# Altium footprint library Passives.PcbLib: 52 footprints (part 3 of 4)
Each footprint in its own frame and in the unit in brackets; x right, y up, seen from the top. Pads: shape width x height; smd on the part's side, far side on the other; paste and mask are expansions set on the pad; w line width, h text height; cw(c..) or ccw(c..) is an arc to the next point about the centre after c.
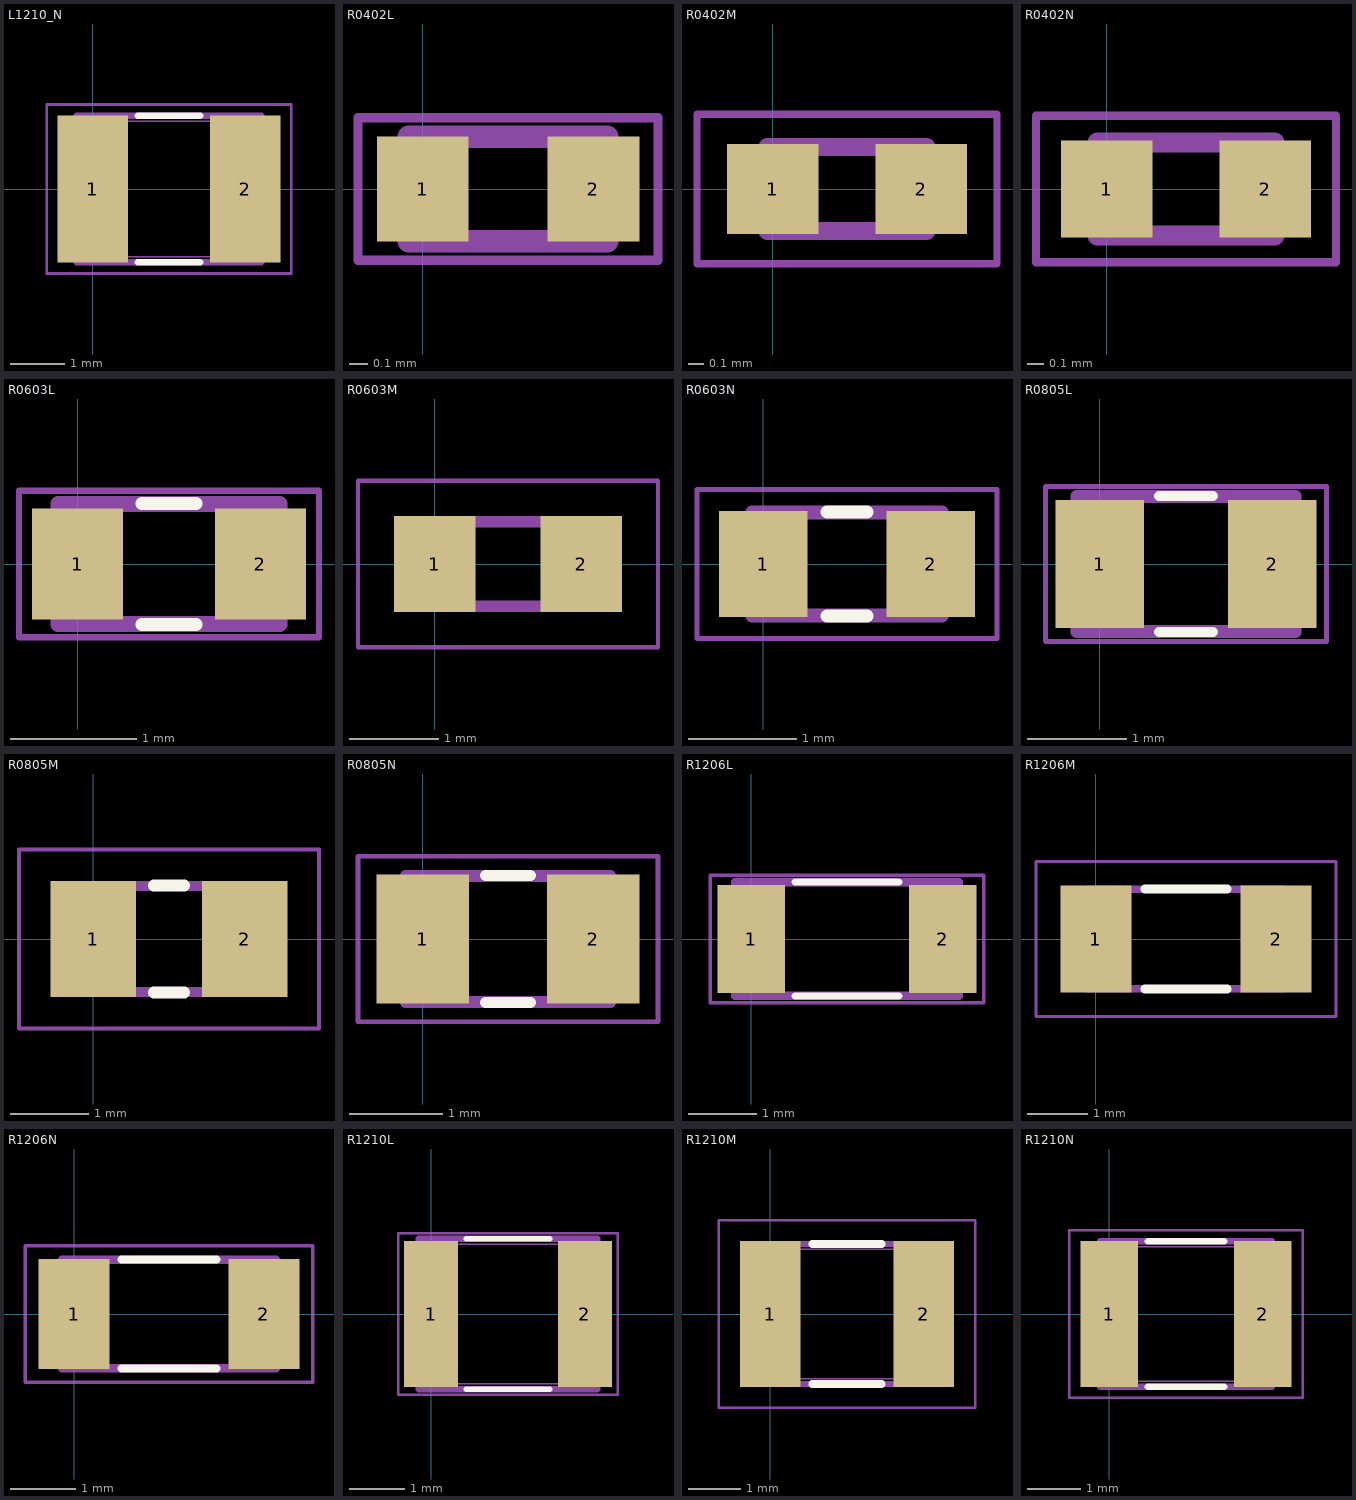
[diagram p2: the footprints below, top view; thin cyan lines are the x and y axes]

## L1210_N [mm]
height 2.7
pads (2):
  rect 1.3x2.72 smd: 1(0,0) 2(2.82,0)
Top Overlay:
  lines w0.12: 0.83,-1.35 1.99,-1.35 ; 0.83,1.35 1.99,1.35
Assembly Top:
  lines w0.12: -0.29,-1.35 3.11,-1.35 3.11,1.35 -0.29,1.35 -0.29,-1.35
3D Top:
  lines w0.025: -0.19,-1.25 -0.19,1.25 ; -0.19,-1.25 0.41,-1.25 0.41,1.25 -0.19,1.25 ; -0.19,-1.25 3.01,-1.25 ; -0.19,-1.25 -0.19,1.25 ; -0.19,1.25 3.01,1.25 ; 3.01,-1.25 2.41,-1.25 2.41,1.25 3.01,1.25 ; 3.01,-1.25 3.01,1.25 ; 3.01,-1.25 3.01,1.25
Courtyard Top:
  circle w0.05: c0,0 r0.25
  lines w0.05: -0.35,0 0.35,0 ; 0,-0.35 0,0.35 ; -0.85,-1.56 3.67,-1.56 3.67,1.56 -0.85,1.56 -0.85,-1.56
3D body: height 2.7, standoff 0, extent -0.189,-1.25 3.011,1.25

## R0402L [mm]
height 0.4
pads (2):
  rect 0.49x0.56 smd: 1(0,0) 2(0.91,0)
Assembly Top:
  lines w0.12: -0.075,-0.28 0.985,-0.28 0.985,0.28 -0.075,0.28 -0.075,-0.28
3D Top:
  lines w0.025: -0.045,-0.25 -0.045,0.25 ; -0.045,-0.25 0.205,-0.25 0.205,0.25 -0.045,0.25 ; -0.045,-0.25 0.955,-0.25 ; -0.045,-0.25 -0.045,0.25 ; -0.045,0.25 0.955,0.25 ; 0.955,-0.25 0.705,-0.25 0.705,0.25 0.955,0.25 ; 0.955,-0.25 0.955,0.25 ; 0.955,-0.25 0.955,0.25
Courtyard Top:
  circle w0.05: c0,0 r0.142
  lines w0.05: -0.19,0 0.19,0 ; 0,-0.19 0,0.19 ; -0.345,-0.38 1.255,-0.38 1.255,0.38 -0.345,0.38 -0.345,-0.38
3D body: height 0.4, standoff 0, extent -0.05,-0.25 0.95,0.25

## R0402M [mm]
height 0.4
pads (2):
  rect 0.61x0.6 smd: 1(0,0) 2(0.99,0)
Assembly Top:
  lines w0.12: -0.035,-0.28 1.025,-0.28 1.025,0.28 -0.035,0.28 -0.035,-0.28
3D Top:
  lines w0.025: -0.005,-0.25 -0.005,0.25 ; -0.005,-0.25 0.245,-0.25 0.245,0.25 -0.005,0.25 ; -0.005,-0.25 0.995,-0.25 ; -0.005,-0.25 -0.005,0.25 ; -0.005,0.25 0.995,0.25 ; 0.995,-0.25 0.745,-0.25 0.745,0.25 0.995,0.25 ; 0.995,-0.25 0.995,0.25 ; 0.995,-0.25 0.995,0.25
Courtyard Top:
  circle w0.05: c0,0 r0.188
  lines w0.05: -0.25,0 0.25,0 ; 0,-0.25 0,0.25 ; -0.505,-0.5 1.495,-0.5 1.495,0.5 -0.505,0.5 -0.505,-0.5
3D body: height 0.4, standoff 0, extent 0,-0.25 1,0.25

## R0402N [mm]
height 0.4
pads (2):
  rect 0.55x0.58 smd: 1(0,0) 2(0.95,0)
Assembly Top:
  lines w0.12: -0.055,-0.28 1.005,-0.28 1.005,0.28 -0.055,0.28 -0.055,-0.28
3D Top:
  lines w0.025: -0.025,-0.25 -0.025,0.25 ; -0.025,-0.25 0.225,-0.25 0.225,0.25 -0.025,0.25 ; -0.025,-0.25 0.975,-0.25 ; -0.025,-0.25 -0.025,0.25 ; -0.025,0.25 0.975,0.25 ; 0.975,-0.25 0.725,-0.25 0.725,0.25 0.975,0.25 ; 0.975,-0.25 0.975,0.25 ; 0.975,-0.25 0.975,0.25
Courtyard Top:
  circle w0.05: c0,0 r0.165
  lines w0.05: -0.22,0 0.22,0 ; 0,-0.22 0,0.22 ; -0.425,-0.44 1.375,-0.44 1.375,0.44 -0.425,0.44 -0.425,-0.44
3D body: height 0.4, standoff 0, extent -0.025,-0.25 0.975,0.25

## R0603L [mm]
height 0.55
pads (2):
  rect 0.72x0.88 smd: 1(0,0) 2(1.45,0)
Top Overlay:
  lines w0.1: 0.51,-0.48 0.94,-0.48 ; 0.51,0.48 0.94,0.48
Assembly Top:
  lines w0.12: -0.155,-0.48 -0.155,0.48 1.605,0.48 1.605,-0.48 -0.155,-0.48
3D Top:
  lines w0.025: -0.075,-0.425 -0.075,0.425 ; -0.075,-0.425 1.525,-0.425 ; -0.075,-0.425 0.225,-0.425 0.225,0.425 -0.075,0.425 ; -0.075,-0.425 -0.075,0.425 ; -0.075,0.425 1.525,0.425 ; 1.525,-0.425 1.525,0.425 ; 1.525,-0.425 1.525,0.425 ; 1.525,-0.425 1.225,-0.425 1.225,0.425 1.525,0.425
Courtyard Top:
  circle w0.05: c0,0 r0.218
  lines w0.05: -0.29,0 0.29,0 ; 0,-0.29 0,0.29 ; -0.465,-0.58 -0.465,0.58 1.915,0.58 1.915,-0.58 -0.465,-0.58
3D body: height 0.55, standoff 0, extent -0.076,-0.425 1.524,0.425

## R0603M [mm]
height 0.55
pads (2):
  rect 0.92x1.08 smd: 1(0,0) 2(1.65,0)
Assembly Top:
  lines w0.12: -0.055,-0.48 -0.055,0.48 1.705,0.48 1.705,-0.48 -0.055,-0.48
3D Top:
  lines w0.025: 0.025,-0.425 0.025,0.425 ; 0.025,-0.425 1.625,-0.425 ; 0.025,-0.425 0.325,-0.425 0.325,0.425 0.025,0.425 ; 0.025,-0.425 0.025,0.425 ; 0.025,0.425 1.625,0.425 ; 1.625,-0.425 1.625,0.425 ; 1.625,-0.425 1.625,0.425 ; 1.625,-0.425 1.325,-0.425 1.325,0.425 1.625,0.425
Courtyard Top:
  circle w0.05: c0,0 r0.25
  lines w0.05: -0.35,0 0.35,0 ; 0,-0.35 0,0.35 ; -0.865,-0.94 -0.865,0.94 2.515,0.94 2.515,-0.94 -0.865,-0.94
3D body: height 0.55, standoff 0, extent 0.026,-0.425 1.626,0.425

## R0603N [mm]
height 0.55
pads (2):
  rect 0.82x0.98 smd: 1(0,0) 2(1.55,0)
Top Overlay:
  lines w0.12: 0.59,-0.48 0.96,-0.48 ; 0.59,0.48 0.96,0.48
Assembly Top:
  lines w0.12: -0.105,-0.48 1.655,-0.48 1.655,0.48 -0.105,0.48 -0.105,-0.48
3D Top:
  lines w0.025: -0.025,-0.425 -0.025,0.425 ; -0.025,-0.425 0.275,-0.425 0.275,0.425 -0.025,0.425 ; -0.025,-0.425 1.575,-0.425 ; -0.025,-0.425 -0.025,0.425 ; -0.025,0.425 1.575,0.425 ; 1.575,-0.425 1.275,-0.425 1.275,0.425 1.575,0.425 ; 1.575,-0.425 1.575,0.425 ; 1.575,-0.425 1.575,0.425
Courtyard Top:
  circle w0.05: c0,0 r0.25
  lines w0.05: -0.345,0 0.345,0 ; 0,-0.345 0,0.345 ; -0.615,-0.69 2.165,-0.69 2.165,0.69 -0.615,0.69 -0.615,-0.69
3D body: height 0.55, standoff 0, extent -0.025,-0.425 1.575,0.425

## R0805L [mm]
height 0.7
pads (2):
  rect 0.89x1.28 smd: 1(0,0) 2(1.73,0)
Top Overlay:
  lines w0.1: 0.595,-0.68 1.135,-0.68 ; 0.595,0.68 1.135,0.68
Assembly Top:
  lines w0.12: -0.235,-0.68 -0.235,0.68 1.965,0.68 1.965,-0.68 -0.235,-0.68
3D Top:
  lines w0.025: -0.135,-0.625 -0.135,0.625 ; -0.135,-0.625 1.865,-0.625 ; -0.135,-0.625 0.265,-0.625 0.265,0.625 -0.135,0.625 ; -0.135,-0.625 -0.135,0.625 ; -0.135,0.625 1.865,0.625 ; 1.865,-0.625 1.865,0.625 ; 1.865,-0.625 1.865,0.625 ; 1.865,-0.625 1.465,-0.625 1.465,0.625 1.865,0.625
Courtyard Top:
  circle w0.05: c0,0 r0.25
  lines w0.05: -0.35,0 0.35,0 ; 0,-0.35 0,0.35 ; -0.545,-0.78 -0.545,0.78 2.275,0.78 2.275,-0.78 -0.545,-0.78
3D body: height 0.7, standoff 0, extent -0.136,-0.625 1.864,0.625

## R0805M [mm]
height 0.7
pads (2):
  rect 1.09x1.48 smd: 1(0,0) 2(1.93,0)
Top Overlay:
  lines w0.15: 0.77,-0.68 1.16,-0.68 ; 0.77,0.68 1.16,0.68
Assembly Top:
  lines w0.12: -0.135,-0.68 -0.135,0.68 2.065,0.68 2.065,-0.68 -0.135,-0.68
3D Top:
  lines w0.025: -0.035,-0.625 -0.035,0.625 ; -0.035,-0.625 1.965,-0.625 ; -0.035,-0.625 0.365,-0.625 0.365,0.625 -0.035,0.625 ; -0.035,-0.625 -0.035,0.625 ; -0.035,0.625 1.965,0.625 ; 1.965,-0.625 1.965,0.625 ; 1.965,-0.625 1.965,0.625 ; 1.965,-0.625 1.565,-0.625 1.565,0.625 1.965,0.625
Courtyard Top:
  circle w0.05: c0,0 r0.25
  lines w0.05: -0.35,0 0.35,0 ; 0,-0.35 0,0.35 ; -0.945,-1.14 -0.945,1.14 2.875,1.14 2.875,-1.14 -0.945,-1.14
3D body: height 0.7, standoff 0, extent -0.034,-0.625 1.966,0.625

## R0805N [mm]
height 0.7
pads (2):
  rect 0.99x1.38 smd: 1(0,0) 2(1.83,0)
Top Overlay:
  lines w0.12: 0.675,-0.68 1.155,-0.68 ; 0.675,0.68 1.155,0.68
Assembly Top:
  lines w0.12: -0.185,-0.68 -0.185,0.68 2.015,0.68 2.015,-0.68 -0.185,-0.68
3D Top:
  lines w0.025: -0.085,-0.625 -0.085,0.625 ; -0.085,-0.625 1.915,-0.625 ; -0.085,-0.625 0.315,-0.625 0.315,0.625 -0.085,0.625 ; -0.085,-0.625 -0.085,0.625 ; -0.085,0.625 1.915,0.625 ; 1.915,-0.625 1.915,0.625 ; 1.915,-0.625 1.915,0.625 ; 1.915,-0.625 1.515,-0.625 1.515,0.625 1.915,0.625
Courtyard Top:
  circle w0.05: c0,0 r0.25
  lines w0.05: -0.35,0 0.35,0 ; 0,-0.35 0,0.35 ; -0.695,-0.89 -0.695,0.89 2.525,0.89 2.525,-0.89 -0.695,-0.89
3D body: height 0.7, standoff 0, extent -0.085,-0.625 1.915,0.625

## R1206L [mm]
height 0.7
pads (2):
  rect 0.98x1.58 smd: 1(0,0) 2(2.79,0)
Top Overlay:
  lines w0.1: 0.64,-0.83 2.15,-0.83 ; 0.64,0.83 2.15,0.83
Assembly Top:
  lines w0.12: -0.235,-0.83 -0.235,0.83 3.025,0.83 3.025,-0.83 -0.235,-0.83
3D Top:
  lines w0.025: -0.168,-0.775 -0.168,0.775 ; -0.168,-0.775 2.957,-0.775 ; -0.168,-0.775 0.333,-0.775 0.333,0.775 -0.168,0.775 ; -0.168,-0.775 -0.168,0.775 ; -0.168,0.775 2.957,0.775 ; 2.957,-0.775 2.957,0.775 ; 2.957,-0.775 2.957,0.775 ; 2.957,-0.775 2.458,-0.775 2.458,0.775 2.957,0.775
Courtyard Top:
  circle w0.05: c0,0 r0.25
  lines w0.05: -0.35,0 0.35,0 ; 0,-0.35 0,0.35 ; -0.595,-0.93 -0.595,0.93 3.385,0.93 3.385,-0.93 -0.595,-0.93
3D body: height 0.7, standoff 0, extent -0.168,-0.775 2.957,0.775

## R1206M [mm]
height 0.7
pads (2):
  rect 1.18x1.78 smd: 1(0,0) 2(2.99,0)
Top Overlay:
  lines w0.15: 0.815,-0.83 2.175,-0.83 ; 0.815,0.83 2.175,0.83
Assembly Top:
  lines w0.12: -0.135,-0.83 -0.135,0.83 3.125,0.83 3.125,-0.83 -0.135,-0.83
3D Top:
  lines w0.025: -0.068,-0.775 -0.068,0.775 ; -0.068,-0.775 3.057,-0.775 ; -0.068,-0.775 0.433,-0.775 0.433,0.775 -0.068,0.775 ; -0.068,-0.775 -0.068,0.775 ; -0.068,0.775 3.057,0.775 ; 3.057,-0.775 3.057,0.775 ; 3.057,-0.775 3.057,0.775 ; 3.057,-0.775 2.558,-0.775 2.558,0.775 3.057,0.775
Courtyard Top:
  circle w0.05: c0,0 r0.25
  lines w0.05: -0.35,0 0.35,0 ; 0,-0.35 0,0.35 ; -0.995,-1.29 -0.995,1.29 3.985,1.29 3.985,-1.29 -0.995,-1.29
3D body: height 0.7, standoff 0, extent -0.067,-0.775 3.058,0.775

## R1206N [mm]
height 0.7
pads (2):
  rect 1.08x1.68 smd: 1(0,0) 2(2.89,0)
Top Overlay:
  lines w0.12: 0.72,-0.83 2.17,-0.83 ; 0.72,0.83 2.17,0.83
Assembly Top:
  lines w0.12: -0.185,-0.83 -0.185,0.83 3.075,0.83 3.075,-0.83 -0.185,-0.83
3D Top:
  lines w0.025: -0.118,-0.775 -0.118,0.775 ; -0.118,-0.775 3.007,-0.775 ; -0.118,-0.775 0.383,-0.775 0.383,0.775 -0.118,0.775 ; -0.118,-0.775 -0.118,0.775 ; -0.118,0.775 3.007,0.775 ; 3.007,-0.775 3.007,0.775 ; 3.007,-0.775 3.007,0.775 ; 3.007,-0.775 2.508,-0.775 2.508,0.775 3.007,0.775
Courtyard Top:
  circle w0.05: c0,0 r0.25
  lines w0.05: -0.35,0 0.35,0 ; 0,-0.35 0,0.35 ; -0.745,-1.04 -0.745,1.04 3.635,1.04 3.635,-1.04 -0.745,-1.04
3D body: height 0.7, standoff 0, extent -0.117,-0.775 3.008,0.775

## R1210L [mm]
height 0.7
pads (2):
  rect 0.97x2.62 smd: 1(0,0) 2(2.76,0)
Top Overlay:
  lines w0.1: 0.635,-1.35 2.125,-1.35 ; 0.635,1.35 2.125,1.35
Assembly Top:
  lines w0.12: -0.22,-1.35 -0.22,1.35 2.98,1.35 2.98,-1.35 -0.22,-1.35
3D Top:
  lines w0.025: -0.17,-1.25 -0.17,1.25 ; -0.17,-1.25 2.93,-1.25 ; -0.17,-1.25 0.33,-1.25 0.33,1.25 -0.17,1.25 ; -0.17,-1.25 -0.17,1.25 ; -0.17,1.25 2.93,1.25 ; 2.93,-1.25 2.93,1.25 ; 2.93,-1.25 2.93,1.25 ; 2.93,-1.25 2.43,-1.25 2.43,1.25 2.93,1.25
Courtyard Top:
  circle w0.05: c0,0 r0.25
  lines w0.05: -0.35,0 0.35,0 ; 0,-0.35 0,0.35 ; -0.59,-1.45 -0.59,1.45 3.35,1.45 3.35,-1.45 -0.59,-1.45
3D body: height 0.7, standoff 0, extent -0.171,-1.25 2.929,1.25

## R1210M [mm]
height 0.7
pads (2):
  rect 1.17x2.82 smd: 1(0,0) 2(2.96,0)
Top Overlay:
  lines w0.15: 0.81,-1.35 2.15,-1.35 ; 0.81,1.35 2.15,1.35
Assembly Top:
  lines w0.12: -0.12,-1.35 -0.12,1.35 3.08,1.35 3.08,-1.35 -0.12,-1.35
3D Top:
  lines w0.025: -0.07,-1.25 -0.07,1.25 ; -0.07,-1.25 3.03,-1.25 ; -0.07,-1.25 0.43,-1.25 0.43,1.25 -0.07,1.25 ; -0.07,-1.25 -0.07,1.25 ; -0.07,1.25 3.03,1.25 ; 3.03,-1.25 3.03,1.25 ; 3.03,-1.25 3.03,1.25 ; 3.03,-1.25 2.53,-1.25 2.53,1.25 3.03,1.25
Courtyard Top:
  circle w0.05: c0,0 r0.25
  lines w0.05: -0.35,0 0.35,0 ; 0,-0.35 0,0.35 ; -0.99,-1.81 -0.99,1.81 3.95,1.81 3.95,-1.81 -0.99,-1.81
3D body: height 0.7, standoff 0, extent -0.069,-1.25 3.031,1.25

## R1210N [mm]
height 0.7
pads (2):
  rect 1.07x2.72 smd: 1(0,0) 2(2.86,0)
Top Overlay:
  lines w0.12: 0.715,-1.35 2.145,-1.35 ; 0.715,1.35 2.145,1.35
Assembly Top:
  lines w0.12: -0.17,-1.35 -0.17,1.35 3.03,1.35 3.03,-1.35 -0.17,-1.35
3D Top:
  lines w0.025: -0.12,-1.25 -0.12,1.25 ; -0.12,-1.25 2.98,-1.25 ; -0.12,-1.25 0.38,-1.25 0.38,1.25 -0.12,1.25 ; -0.12,-1.25 -0.12,1.25 ; -0.12,1.25 2.98,1.25 ; 2.98,-1.25 2.98,1.25 ; 2.98,-1.25 2.98,1.25 ; 2.98,-1.25 2.48,-1.25 2.48,1.25 2.98,1.25
Courtyard Top:
  circle w0.05: c0,0 r0.25
  lines w0.05: -0.35,0 0.35,0 ; 0,-0.35 0,0.35 ; -0.74,-1.56 -0.74,1.56 3.6,1.56 3.6,-1.56 -0.74,-1.56
3D body: height 0.7, standoff 0, extent -0.12,-1.25 2.98,1.25